# Altium footprint library indication.PcbLib: 4 footprints
Each footprint in its own frame and in the unit in brackets; x right, y up, seen from the top. Pads: shape width x height; smd on the part's side, far side on the other; paste and mask are expansions set on the pad; w line width, h text height; cw(c..) or ccw(c..) is an arc to the next point about the centre after c.
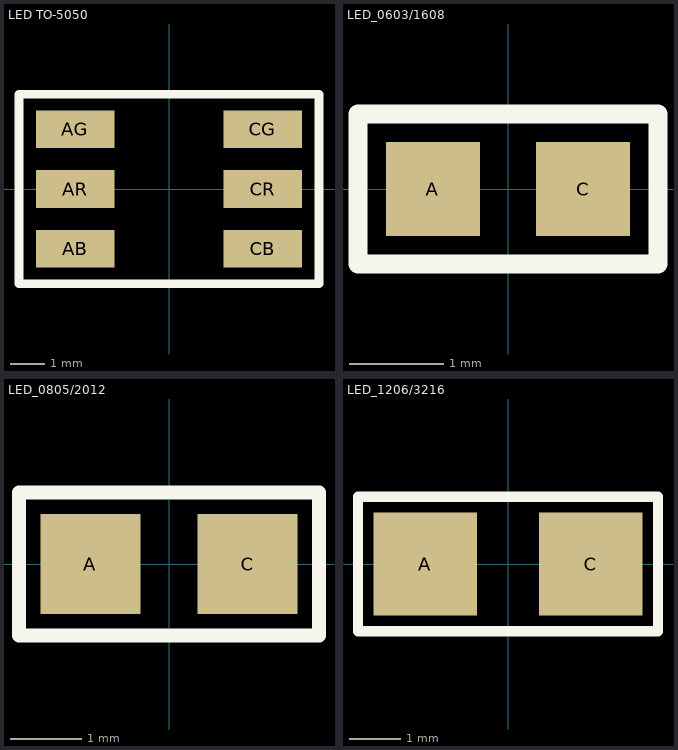
[diagram p0: the footprints below, top view; thin cyan lines are the x and y axes]

## LED TO-5050 [mm] "TO-5050 LED"
pads (6):
  rect 2.3x1.1 smd: AB(-2.75,-1.75) AG(-2.75,1.75) AR(-2.75,0) CB(2.75,-1.75) CG(2.75,1.75) CR(2.75,0)
Top Overlay:
  lines w0.254: -4.4,-2.775 -4.4,2.775 4.4,2.775 4.4,-2.775 -4.4,-2.775
3D body "LED SMD 5050 RGB.stp": height 1.62, standoff 0, extent -2.7,-2.525 2.7,2.475

## LED_0603/1608 [mm] "LED, SMD, 0603 (1608 metric)"
pads (2):
  rect 1x1 smd mask+0: A(-0.8,0) C(0.8,0)
Top Overlay:
  lines w0.2: -1.6,-0.8 1.6,-0.8 1.6,0.8 -1.6,0.8 -1.6,-0.8
3D body "LED SMD 0603.step": height 0.6, standoff 0, extent -0.8,-0.4 0.8,0.4

## LED_0805/2012 [mm] "LED, SMD, 0805 (2012 metric)"
pads (2):
  rect 1.4x1.4 smd mask+0: A(-1.1,0) C(1.1,0)
Top Overlay:
  lines w0.2: -2.1,-1 2.1,-1 2.1,1 -2.1,1 -2.1,-1
3D body "LED SMD 0805.step": height 1, standoff 0, extent -1,-0.625 1,0.625

## LED_1206/3216 [mm] "LED, SMD, 1206 (3216 metric)"
pads (2):
  rect 2x2 smd mask+0: A(-1.6,0) C(1.6,0)
Top Overlay:
  lines w0.2: -2.9,-1.3 2.9,-1.3 2.9,1.3 -2.9,1.3 -2.9,-1.3
3D body "LED SMD 1206.step": height 1.1, standoff 0, extent -1.6,-0.8 1.6,0.8